# Altium footprint library 4148_SMD.PcbLib: 1 footprints
Each footprint in its own frame and in the unit in brackets; x right, y up, seen from the top. Pads: shape width x height; smd on the part's side, far side on the other; paste and mask are expansions set on the pad; w line width, h text height; cw(c..) or ccw(c..) is an arc to the next point about the centre after c.
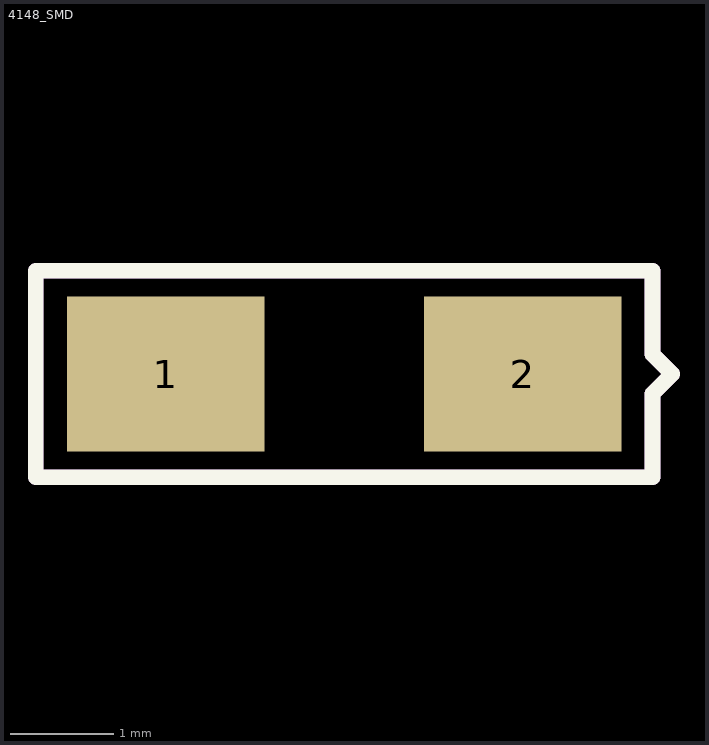
[diagram p0: the footprint, top view; thin cyan lines are the x and y axes]

## 4148_SMD [mm]
pads (2):
  rect 1.91x1.499 smd: 1(8.644,5.419) 2(12.099,5.419)
Top Overlay:
  lines w0.152: 7.387,4.42 7.387,6.418 13.356,6.418 13.356,5.609 13.547,5.419 13.356,5.228 13.356,4.42 7.387,4.42
Mechanical 1:
  lines w0.152: 7.387,4.42 7.387,6.418 13.356,6.418 13.356,5.609 13.547,5.419 13.356,5.228 13.356,4.42 7.387,4.42